# EAGLE library part HD-A101 (library display-hp)
LED DISPLAY 1-character 7 segment, decimal point right
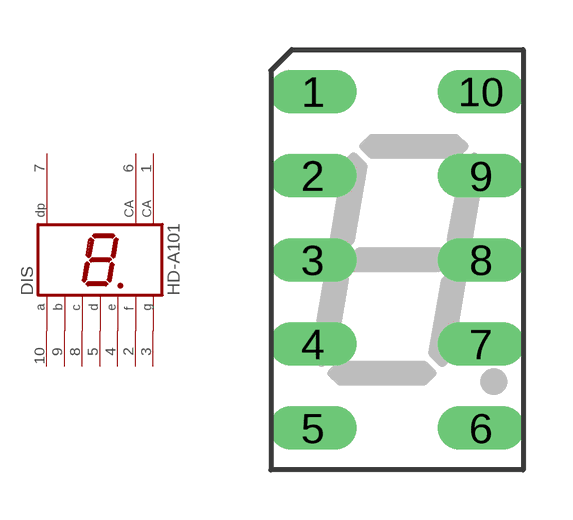
[diagram p18: symbol with the pads of HDSP-A; footprint HDSP-A]

Designator prefix DIS

## HD-A101 (OC_FARNELL: unknown; OC_NEWARK: unknown)  [HDSP-A]
1  CA  pas
2  F  pas
3  G  pas
4  E  pas
5  D  pas
6  CA  pas
7  DP  pas
8  C  pas
9  B  pas
10  A  pas

## Footprint HDSP-A (pad centres in mm)
LED DISPLAY 8-mm 1 character 7 segment, decimal point right
drill 0.813 long: 1 -2.54,5.08; 2 -2.54,2.54; 3 -2.54,0; 4 -2.54,-2.54; 5 -2.54,-5.08; 6 2.54,-5.08; 7 2.54,-2.54; 8 2.54,0; 9 2.54,2.54; 10 2.54,5.08